# EAGLE library part ERM8-025-01-D-RA (library con-samtec-er8)
ERM8 Series - Male Right Angle Edge Mount
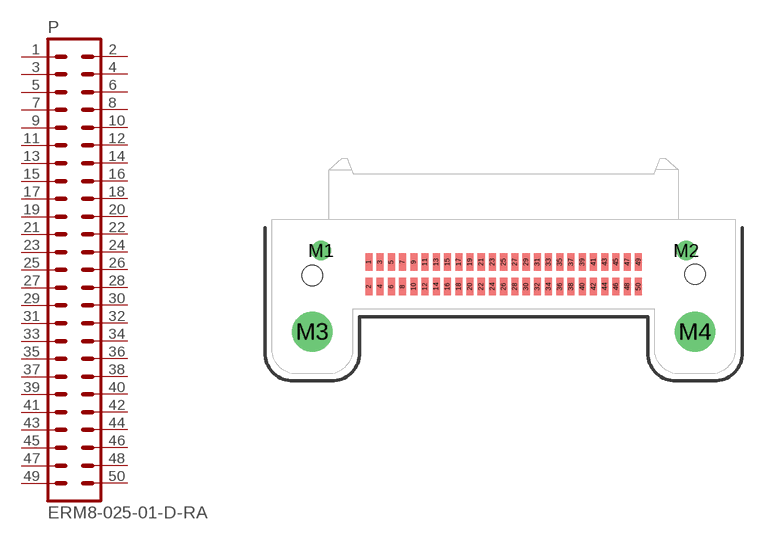
[diagram p26: symbol with the pads of ERM8-025-01-D-RA; footprint ERM8-025-01-D-RA]

Designator prefix P

## ERM8-025-01-D-RA  [ERM8-025-01-D-RA]
1  1  pas
2  2  pas
3  3  pas
4  4  pas
5  5  pas
6  6  pas
7  7  pas
8  8  pas
9  9  pas
10  10  pas
11  11  pas
12  12  pas
13  13  pas
14  14  pas
15  15  pas
16  16  pas
17  17  pas
18  18  pas
19  19  pas
20  20  pas
21  21  pas
22  22  pas
23  23  pas
24  24  pas
25  25  pas
26  26  pas
27  27  pas
28  28  pas
29  29  pas
30  30  pas
31  31  pas
32  32  pas
33  33  pas
34  34  pas
35  35  pas
36  36  pas
37  37  pas
38  38  pas
39  39  pas
40  40  pas
41  41  pas
42  42  pas
43  43  pas
44  44  pas
45  45  pas
46  46  pas
47  47  pas
48  48  pas
49  49  pas
50  50  pas

## Footprint ERM8-025-01-D-RA (pad centres in mm)
0.8mm Edge Rate Terminal Assembly MALE, Right Angle Double Row, 25 Position
smd 0.5 x 1.25: 1 -9.6,0.875; 2 -9.6,-0.875; 3 -8.8,0.875; 4 -8.8,-0.875; 5 -8,0.875; 6 -8,-0.875; 7 -7.2,0.875; 8 -7.2,-0.875; 9 -6.4,0.875; 10 -6.4,-0.875; 11 -5.6,0.875; 12 -5.6,-0.875; 13 -4.8,0.875; 14 -4.8,-0.875; 15 -4,0.875; 16 -4,-0.875; 17 -3.2,0.875; 18 -3.2,-0.875; 19 -2.4,0.875; 20 -2.4,-0.875; 21 -1.6,0.875; 22 -1.6,-0.875; 23 -0.8,0.875; 24 -0.8,-0.875; 25 0,0.875; 26 0,-0.875; 27 0.8,0.875; 28 0.8,-0.875; 29 1.6,0.875; 30 1.6,-0.875; 31 2.4,0.875; 32 2.4,-0.875; 33 3.2,0.875; 34 3.2,-0.875; 35 4,0.875; 36 4,-0.875; 37 4.8,0.875; 38 4.8,-0.875; 39 5.6,0.875; 40 5.6,-0.875; 41 6.4,0.875; 42 6.4,-0.875; 43 7.2,0.875; 44 7.2,-0.875; 45 8,0.875; 46 8,-0.875; 47 8.8,0.875; 48 8.8,-0.875; 49 9.6,0.875; 50 9.6,-0.875
drill 0.7 pad 1.4: M1 -13,1.69; M2 13,1.69
drill 1.91 pad 2.5: M3 -13.625,-4.09; M4 13.625,-4.09
hole 1.45 at -13.625,-0.09
hole 1.45 at 13.625,0